# Altium footprint library Mini-Rambo_OLD.PcbLib: 52 footprints (part 2 of 4)
Each footprint in its own frame and in the unit in brackets; x right, y up, seen from the top. Pads: shape width x height; smd on the part's side, far side on the other; paste and mask are expansions set on the pad; w line width, h text height; cw(c..) or ccw(c..) is an arc to the next point about the centre after c.
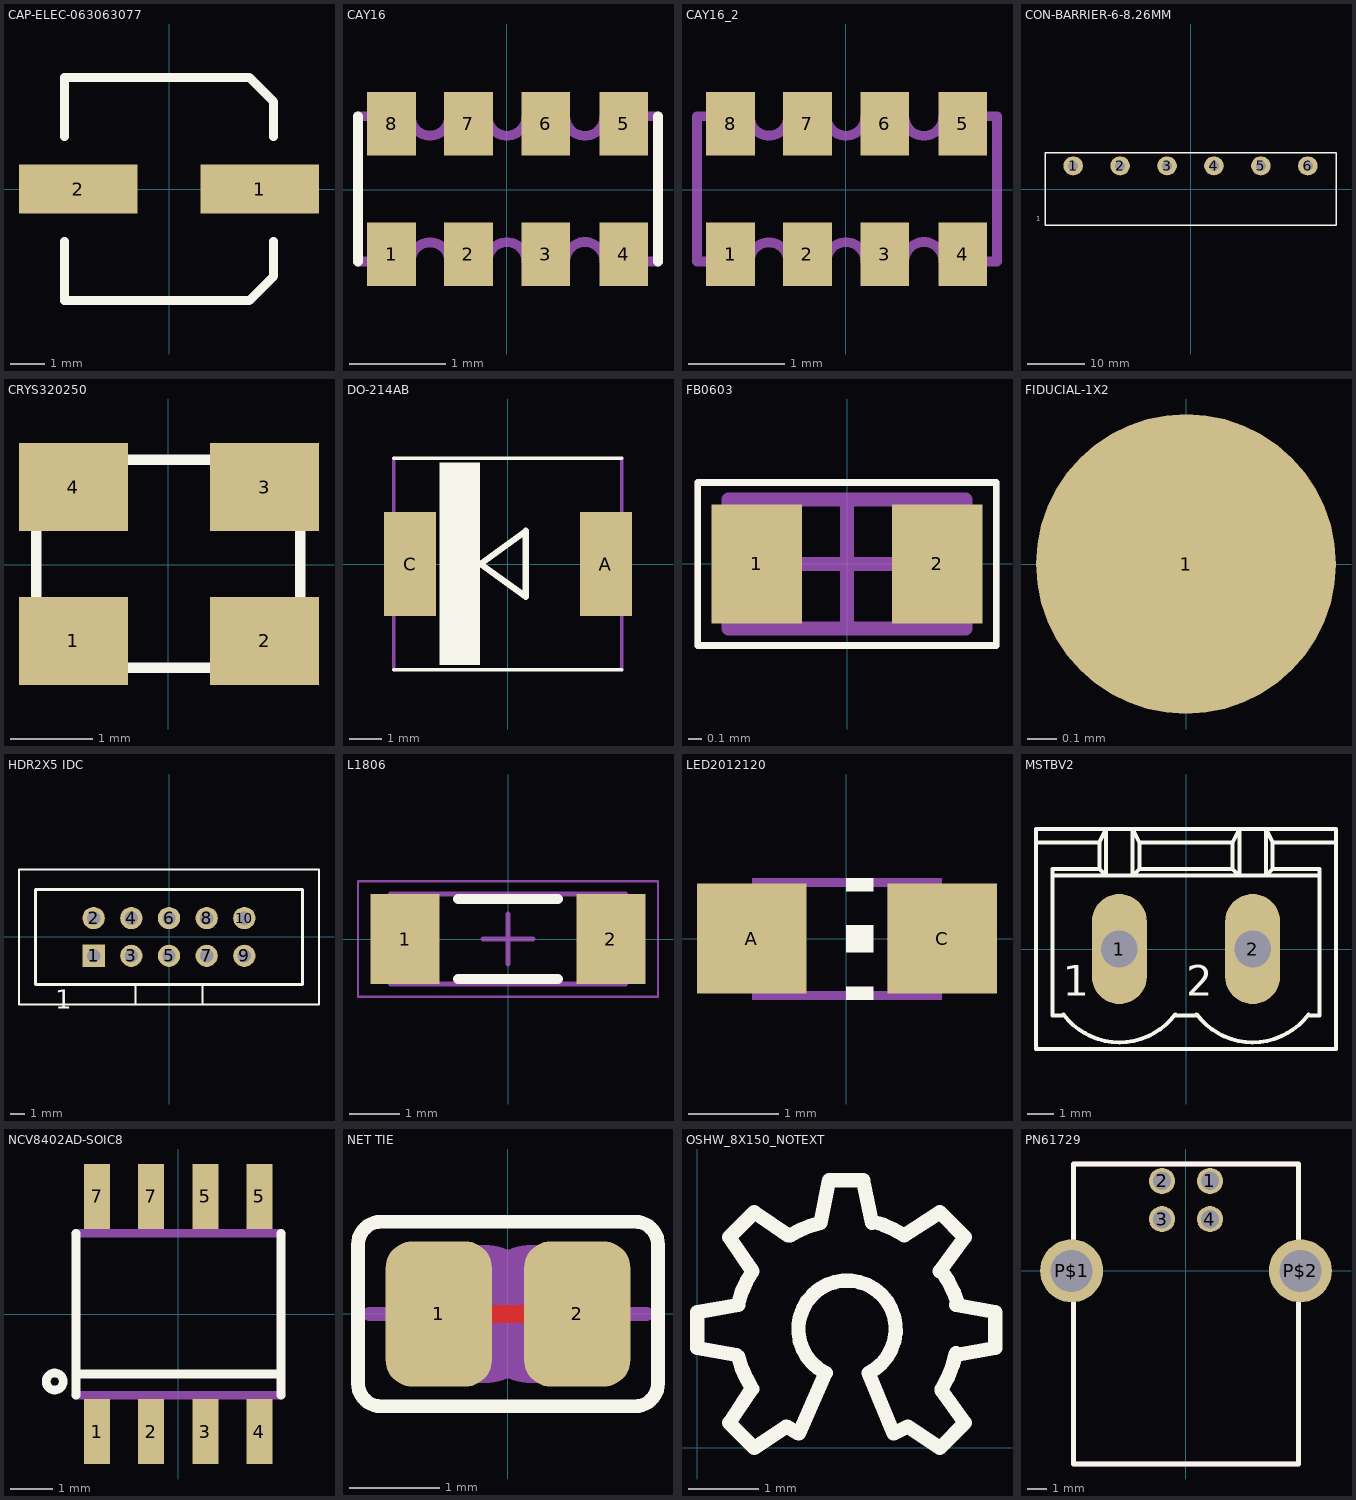
[diagram p1: the footprints below, top view; thin cyan lines are the x and y axes]

## CAP-ELEC-063063077 [mm] "6.3x6.3x7.7mm"
height 7.7
pads (2):
  rect 3.4x1.4 smd: 1(2.6,0) 2(-2.6,0)
Top Overlay:
  lines w0.254: -3,-1.5 -3,-3.2 2.3,-3.2 3,-2.5 3,-1.5 ; -3,1.5 -3,3.2 2.3,3.2 3,2.5 3,1.5
3D body "User Library-ALU-D.STEP": height 5.4, standoff 0, extent -3.5,-3.3 3.5,3.3

## CAY16 [mil]
pads (8):
  rect 20x26 smd: 1(-47.24,-26.57) 2(-15.75,-26.57) 3(16,-26.57) 4(48,-26.57) 5(48,27) 6(16,27) 7(-15.75,27) 8(-47.24,27)
Top Overlay:
  lines w4: -61.02,-29.53 -61.02,30 ; 62,-29.53 62,30
Mechanical 8:
  lines w4: -61.02,-29.53 -39.37,-29.53 cw(c-31.5,-29.53) -23.62,-29.53 -7.87,-29.53 cw(c0.06,-29.53) 8,-29.53 24,-29.53 cw(c32,-29.53) 40,-29.53 62,-29.53 62,30 40,30 cw(c32,30) 24,30 8,30 cw(c0.06,30) -7.87,30 -23.62,30 cw(c-31.5,30) -39.37,30 -61.02,30 -61.02,-29.53
3D body: height 19.68, standoff 0, extent -61.04,-29.55 62.02,30.02

## CAY16_2 [mil]
pads (8):
  rect 20x26 smd: 1(-47.24,-26.57) 2(-15.75,-26.57) 3(16,-26.57) 4(48,-26.57) 5(48,27) 6(16,27) 7(-15.75,27) 8(-47.24,27)
Mechanical 8:
  lines w4: -61.02,-29.53 -61.02,30 -39.37,30 ccw(c-31.5,30) -23.62,30 -7.87,30 ccw(c0.06,30) 8,30 24,30 ccw(c32,30) 40,30 62,30 62,-29.53 40,-29.53 ccw(c32,-29.53) 24,-29.53 8,-29.53 ccw(c0.06,-29.53) -7.87,-29.53 -23.62,-29.53 ccw(c-31.5,-29.53) -39.37,-29.53 -61.02,-29.53
3D body: height 19.68, standoff 0, extent -61.04,-29.55 62.02,30.02

## CON-BARRIER-6-8.26MM [mil]
pads (6):
  oval 136x130 hole 70: 1(-812.5,160) 2(-487.5,160) 3(-162.5,160) 4(162.5,160) 5(487.5,160) 6(812.5,160)
Top Overlay:
  lines w10: -1007.5,-250 -1007.5,250 1007.5,250 1007.5,-250 -1007.5,-250
  text "1" at -1070,-220 h32
3D body: height 530, standoff 0, extent -1007.48,-249.98 1007.48,249.98

## CRYS320250 [mil]
pads (4):
  rect 52x42 smd: 1(-45.28,-36.42) 2(46,-36.42) 3(46,37) 4(-45.28,37)
Top Overlay:
  lines w5: -62.99,-49.21 -62.99,50 63,50 63,-49.21 -62.99,-49.21
3D body: height 27.56, standoff 0, extent -62.97,-49.19 62.98,49.98

## DO-214AB [mil]
pads (2):
  rect 63x126 smd: A(119,0) C(-118.11,0)
Top Overlay:
  rectangle: -82.72,-122.06 -33.5,122.99
  lines w4: -137.8,-127.95 138,-127.95 ; -137.8,128 138,128
  lines w8: -32.68,0 22,-39.37 22,40 -32.68,0
Mechanical 8:
  rectangle: 115.96,-43.01 136.96,42.99
  rectangle: -136.22,-43.01 -115.22,42.99
  lines w4: -137.8,-127.95 -137.8,128 ; 138,-127.95 138,128
3D body: height 98.43, standoff 0, extent -139.8,-129.95 140,130

## FB0603 [mm] "Ferrite Bead, Samsung CIS10P High Current Series"
height 0.95
pads (2):
  rect 0.67x0.88 smd: 1(-0.665,0) 2(0.665,0)
Top Overlay:
  lines w0.05: -1.1,-0.6 1.1,-0.6 1.1,0.6 -1.1,0.6 -1.1,-0.6
Mechanical 13:
  lines w0.1: -0.875,-0.475 -0.875,0.475 0.875,0.475 0.875,-0.475 -0.875,-0.475
Mechanical 15:
  lines w0.05: -1.1,-0.6 -1.1,0.6 1.1,0.6 1.1,-0.6 -1.1,-0.6
  lines w0.1: -0.475,0 0.475,0 ; 0,-0.475 0,0.475
3D body "FB0603.step": height 0.95, standoff 0, extent -0.875,-0.475 0.875,0.475

## FIDUCIAL-1X2 [mil]
pads (1):
  rrect100% 40x40 smd paste-3897.64 mask+20: 1(0,0)
3D body: height 0.79, standoff 0, extent -19.84,-19.96 20.01,19.97

## HDR2X5 IDC [mm] "Connector; Header; 5x2 Position"
pads (10):
  rect 1.5x1.5 hole 0.9: 1(-5.08,-1.27)
  round 1.5 hole 0.9: 2(-5.08,1.27) 3(-2.54,-1.27) 4(-2.54,1.27) 5(0,-1.27) 6(0,1.27) 7(2.54,-1.27) 8(2.54,1.27) 9(5.08,-1.27) 10(5.08,1.27)
Top Overlay:
  lines w0.152: -2.25,-4.55 -2.25,-3.2 ; 2.25,-4.55 2.25,-3.2 ; -10.11,-4.55 10.11,-4.55 10.11,4.55 -10.11,4.55 -10.11,-4.55
  lines w0.2: -9.01,-3.2 9.01,-3.2 9.01,3.2 -9.01,3.2 -9.01,-3.2
  text "1" at -7.671,-4.826 h1.27
Mechanical 1:
  lines w0.152: -5.33,-1.52 -4.83,-1.52 -4.83,-1.02 -5.33,-1.02 -5.33,-1.52 ; -5.33,1.02 -4.83,1.02 -4.83,1.52 -5.33,1.52 -5.33,1.02 ; -2.79,-1.52 -2.29,-1.52 -2.29,-1.02 -2.79,-1.02 -2.79,-1.52 ; -2.79,1.02 -2.29,1.02 -2.29,1.52 -2.79,1.52 -2.79,1.02 ; -0.25,-1.52 0.25,-1.52 0.25,-1.02 -0.25,-1.02 -0.25,-1.52 ; -0.25,1.02 0.25,1.02 0.25,1.52 -0.25,1.52 -0.25,1.02 ; 2.29,-1.52 2.79,-1.52 2.79,-1.02 2.29,-1.02 2.29,-1.52 ; 2.29,1.02 2.79,1.02 2.79,1.52 2.29,1.52 2.29,1.02 ; 4.83,-1.52 5.33,-1.52 5.33,-1.02 4.83,-1.02 4.83,-1.52 ; 4.83,1.02 5.33,1.02 5.33,1.52 4.83,1.52 4.83,1.02
3D body: height 9.1, standoff -3.1, extent 4.831,1.021 5.329,1.519
3D body: height 9.1, standoff -3.1, extent 2.291,1.021 2.789,1.519
3D body: height 9.1, standoff -3.1, extent 4.831,-1.519 5.329,-1.021
3D body: height 9.1, standoff -3.1, extent 2.291,-1.519 2.789,-1.021
3D body: height 9.1, standoff -3.1, extent -0.249,1.021 0.249,1.519
3D body: height 9.1, standoff -3.1, extent -2.789,1.021 -2.291,1.519
3D body: height 9.1, standoff -3.1, extent -5.329,1.021 -4.831,1.519
3D body: height 9.1, standoff -3.1, extent -0.249,-1.519 0.249,-1.021
3D body: height 9.1, standoff -3.1, extent -5.329,-1.519 -4.831,-1.021
3D body: height 9.1, standoff -3.1, extent -2.789,-1.519 -2.291,-1.021
3D body: height 9.1, standoff 0, extent -10.109,-4.549 10.109,4.549
3D body: height 2, standoff 0, extent -10.186,-4.626 10.186,4.626

## L1806 [mm] "Chip Inductor, 2-Leads, Body 4.50x1.60mm, IPC Medium Density"
height 1.8
pads (2):
  rect 1.38x1.8 smd: 1(-2.06,0) 2(2.06,0)
Top Overlay:
  lines w0.2: -1,-0.8 1,-0.8 ; -1,0.8 1,0.8
Mechanical 13:
  lines w0.1: -2.35,-0.9 -2.35,0.9 2.35,0.9 2.35,-0.9 -2.35,-0.9
Mechanical 15:
  lines w0.05: -3,-1.15 -3,1.15 3,1.15 3,-1.15 -3,-1.15
  lines w0.1: -0.5,0 0.5,0 ; 0,-0.5 0,0.5
3D body: height 1.8, standoff 0, extent -1.65,-0.9 1.65,0.9
3D body: height 1.8, standoff 0, extent -2.35,-0.9 -1.65,0.9
3D body: height 1.8, standoff 0, extent 1.65,-0.9 2.35,0.9

## LED2012120 [mil]
pads (2):
  rect 48x48 smd: A(-41.34,0) C(42,0)
Top Overlay:
  region: 0,5.9 0,-6 12,-6 12,5.9
  region: 0,-21 0,-27 12,-27 12,-21
  region: 0,26.57 0,20.67 12,20.67 12,26.57
Mechanical 8:
  region: -41.34,26.58 -41.34,-27 -17.72,-27 -17.72,26.57
  region: 18,26.58 18,-27 42,-27 42,26.58
  lines w4: -18.7,-25 18,-25 ; -17.72,24.61 18,24.61
3D body: height 11.81, standoff 0, extent -50,-25 50,25
3D body: height 27.56, standoff 0, extent -30,-25 30,25
3D body: height 15.75, standoff 0, extent 20,-10 35,10

## MSTBV2 [mil]
pads (2):
  oval 82.5x165 hole 55: 1(-100,0) 2(100,0)
Top Overlay:
  lines w6: -184,-98 ccw(c-100,-35) -100,-140 ccw(c-100,-35) -16,-98 ; -183,-100 -200,-100 -200,110 ; -15,-100 15,-100 ; 16,-98 ccw(c100,-35) 100,-140 ccw(c100,-35) 184,-98 ; 183,-100 200,-100 ; 185,-100 200,-100 ; -225,160 -225,180 -120,180 ; -225,160 -225,-150 225,-150 225,160 ; -225,160 -130,160 ; -200,110 -200,120 -130,120 ; -200,110 -120,110 ; -130,120 -130,160 ; -130,120 -120,110 ; -130,160 -120,180 ; -120,110 -80,110 ; -120,110 -120,180 ; -120,180 -80,180 ; -80,110 80,110 ; -80,110 -80,180 ; -80,110 -70,120 ; -80,180 80,180 ; -80,180 -70,160 ; -70,120 70,120 ; -70,120 -70,160 ; -70,160 70,160 ; 70,120 70,160 ; 70,120 80,110 ; 70,160 80,180 ; 80,110 120,110 ; 80,110 80,180 ; 80,180 120,180 ; 120,110 120,180 ; 120,110 130,120 ; 120,110 130,120 ; 120,110 200,110 ; 120,180 130,160 ; 120,180 130,160 ; 120,180 225,180 225,160 ; 130,120 130,160 ; 130,120 200,120 200,110 ; 130,160 225,160 ; 200,-100 200,110
  text "1" at -185,-85 h77.5
  text "2" at 0,-85 h77.5
Mechanical 8:
  lines w6: -125,-25 -125,25 ; -125,-25 -75,-25 ; -125,-25 -75,25 ; -125,25 -75,25 ; -125,25 -75,-25 ; -75,-25 -75,25 ; 75,-25 125,-25 ; 75,-25 75,25 ; 75,-25 125,25 ; 75,25 125,25 ; 75,25 125,-25 ; 125,-25 125,25
3D body: height 393.7, standoff 0, extent -228,-153 228,183

## NCV8402AD-SOIC8 [mil]
pads (8):
  rect 24x60 smd: 1(-75,-108.27) 2(-25,-108.27) 3(25,-108.27) 4(75,-108.27) 5(25,109) 5(75,109) 7(-75,109) 7(-25,109)
Top Overlay:
  circle w8: c-114.17,-62.01 r7.87
  lines w8: -94.49,-74.8 -94.49,-55.12 ; -94.49,75 -94.49,-55.12 ; 95,-74.8 95,-55.12 ; 95,75 95,-55.12 ; -94.49,-55.12 95,-55.12
Mechanical 8:
  rectangle: -84.65,79 -65.35,123
  rectangle: -34.65,79 -15.35,123
  rectangle: 16,79 35,123
  rectangle: 66,79 85,123
  rectangle: 66,-122.05 85,-78.74
  rectangle: 16,-122.05 35,-78.74
  rectangle: -34.65,-122.05 -15.35,-78.74
  rectangle: -84.65,-122.05 -65.35,-78.74
  lines w8: -94.49,-74.8 95,-74.8 ; -94.49,75 95,75
3D body: height 58.27, standoff 0, extent -98.49,-78.8 99,79
3D body: height 31.5, standoff 0, extent -85,-130 -65,-75
3D body: height 31.5, standoff 0, extent -35,-130 -15,-75
3D body: height 31.5, standoff 0, extent 15,-130 35,-75
3D body: height 31.5, standoff 0, extent 65,-130 85,-75
3D body: height 31.5, standoff 0, extent -85,75 -65,130
3D body: height 31.5, standoff 0, extent -35,75 -15,130
3D body: height 31.5, standoff 0, extent 15,75 35,130
3D body: height 31.5, standoff 0, extent 65,75 85,130

## NET TIE [mil]
pads (2):
  rrect50% 46x63 smd: 1(-30,0) 2(30,0)
Top Layer:
  lines w8: -30,0 30,0
Top Overlay:
  lines w6: -65,-30 ccw(c-55,-30) -55,-40 55,-40 ccw(c55,-30) 65,-30 65,30 ccw(c55,30) 55,40 -55,40 ccw(c-55,30) -65,30 -65,-30
Top Solder:
  rectangle: -18.7,-34.45 16.73,36
Mechanical 8:
  lines w6: -60,0 -40,0 ; 40,0 60,0
  lines w50: -10,-5 cw(c-10,0) -10,5 ; 10,-5 ccw(c10,0) 10,5
3D body: height 3.94, standoff 0, extent -53.15,-30.51 -6.89,31.5
3D body: height 3.94, standoff 0, extent 6.89,-31.5 53.15,30.51

## OSHW_8X150_NOTEXT [mil]
Top Overlay:
  lines w8: 22,52 0,56 0,76 23,80 ; 23,51 ccw(c82.62,66.72) 31,33 ; 23,81 cw(c81.53,65.76) 31,99 18,118 32,132 51,119 ; 30,32 18,14 32,0 50,12 57,8 72,42 cw(c84,66.5) 96,42 110,8 118,12 136,0 150,14 137,32 ; 52,119 cw(c83.22,67.32) 69,126 74,150 93,150 98,126 ; 98,127 cw(c81.44,65.49) 116,119 136,132 150,118 136,99 ; 137,33 ccw(c83.46,66.02) 145,53 ; 137,99 cw(c89.85,64.18) 146,81 ; 145,52 167,56 167,76 145,80
Mechanical 8:
  drawing of 191 lines, arcs and shapes, not listed
3D body: height 0, standoff 0, extent -0.07,2 168,148

## PN61729 [mil]
pads (6):
  round 54 hole 38: 1(50,186) 2(-49.21,186) 3(-49.21,107) 4(50,107)
  round 130.5 hole 87: P$1(-236.22,0) P$2(237,0)
Top Overlay:
  lines w10: -232.28,-399.61 -232.28,221 233,221 233,-399.61 -232.28,-399.61
Mechanical 8:
  lines w10: -232.28,-399.61 233,-399.61 233,221 -232.28,221 -232.28,-399.61
3D body: height 405.51, standoff 27.56, extent -237.28,-404.61 238,226